# Altium footprint library U.FL-R-SMT-1_10_.PcbLib: 2 footprints
Each footprint in its own frame and in the unit in brackets; x right, y up, seen from the top. Pads: shape width x height; smd on the part's side, far side on the other; paste and mask are expansions set on the pad; w line width, h text height; cw(c..) or ccw(c..) is an arc to the next point about the centre after c.
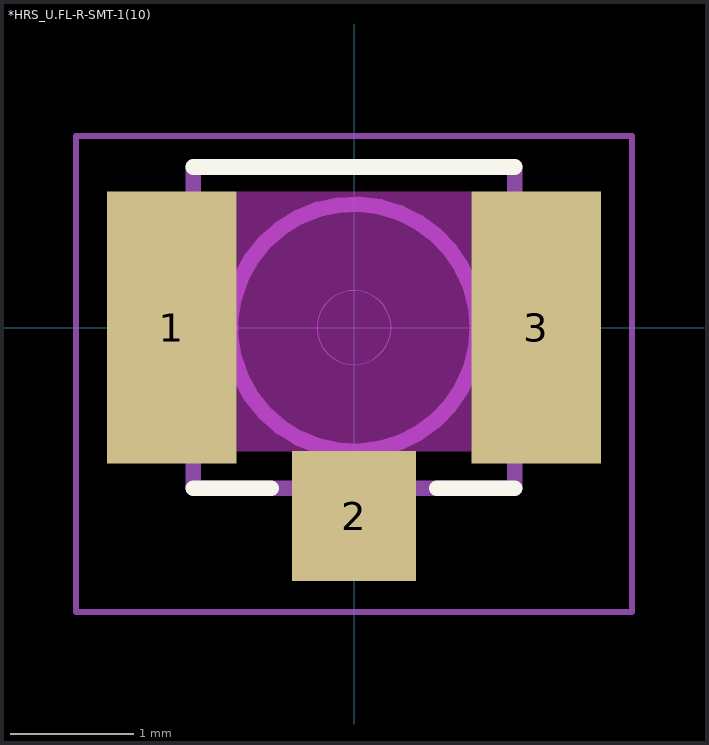
[diagram p0: the footprints below, top view; thin cyan lines are the x and y axes]

## *HRS_U.FL-R-SMT-1(10) [mm]
pads (3):
  rect 1.05x2.2 smd: 1(-1.475,0) 3(1.475,0)
  rect 1x1.05 smd: 2(0,-1.525)
Top Overlay:
  lines w0.127: -1.3,-1.3 -0.67,-1.3 ; -1.3,1.3 1.3,1.3 ; 0.67,-1.3 1.3,-1.3
Keep-Out Layer:
  region: -0.95,1.1 0.95,1.1 0.95,-1 -0.95,-1
  region: -0.95,1.1 0.95,1.1 0.95,-1 -0.95,-1
  region: -0.95,1.1 0.95,1.1 0.95,-1 -0.95,-1
Mechanical 4:
  circle w0: c0,0 r0.3
  circle w0.127: c0,0 r1
  circle w0: c0,0 r0.3
  circle w0.127: c0,0 r1
  lines w0.127: -1.3,-1.3 -1.3,1.3 ; -1.3,-1.3 1.3,-1.3 ; -1.3,-1.3 -1.3,1.3 ; -1.3,-1.3 1.3,-1.3 ; -1.3,1.3 1.3,1.3 ; -1.3,1.3 1.3,1.3 ; 1.3,-1.3 1.3,1.3 ; 1.3,-1.3 1.3,1.3
Mechanical 16:
  lines w0.05: -2.25,-2.3 -2.25,1.55 2.25,1.55 2.25,-2.3 -2.25,-2.3

## PCBComponent_1 [mm]